# EAGLE library part JUMPERS-14X3 (library cdp)
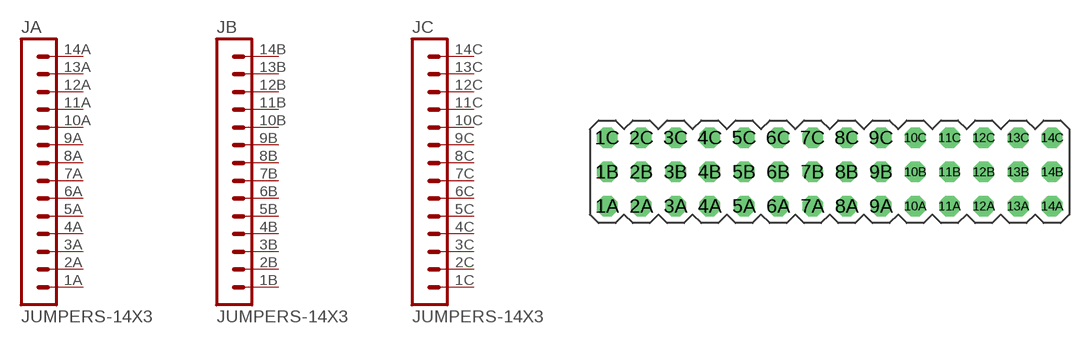
[diagram p51: symbol with the pads of MA14-3; footprint MA14-3]

Designator prefix J; gates A=MA14-1 B=MA14-1 C=MA14-1

## JUMPERS-14X3  [MA14-3]
1A  A:1  pas
1B  B:1  pas
1C  C:1  pas
2A  A:2  pas
2B  B:2  pas
2C  C:2  pas
3A  A:3  pas
3B  B:3  pas
3C  C:3  pas
4A  A:4  pas
4B  B:4  pas
4C  C:4  pas
5A  A:5  pas
5B  B:5  pas
5C  C:5  pas
6A  A:6  pas
6B  B:6  pas
6C  C:6  pas
7A  A:7  pas
7B  B:7  pas
7C  C:7  pas
8A  A:8  pas
8B  B:8  pas
8C  C:8  pas
9A  A:9  pas
9B  B:9  pas
9C  C:9  pas
10A  A:10  pas
10B  B:10  pas
10C  C:10  pas
11A  A:11  pas
11B  B:11  pas
11C  C:11  pas
12A  A:12  pas
12B  B:12  pas
12C  C:12  pas
13A  A:13  pas
13B  B:13  pas
13C  C:13  pas
14A  A:14  pas
14B  B:14  pas
14C  C:14  pas

## Footprint MA14-3 (pad centres in mm)
drill 1.016 octagon: 1A -16.51,-2.54; 1B -16.51,0; 1C -16.51,2.54; 2A -13.97,-2.54; 2B -13.97,0; 2C -13.97,2.54; 3A -11.43,-2.54; 3B -11.43,0; 3C -11.43,2.54; 4A -8.89,-2.54; 4B -8.89,0; 4C -8.89,2.54; 5A -6.35,-2.54; 5B -6.35,0; 5C -6.35,2.54; 6A -3.81,-2.54; 6B -3.81,0; 6C -3.81,2.54; 7A -1.27,-2.54; 7B -1.27,0; 7C -1.27,2.54; 8A 1.27,-2.54; 8B 1.27,0; 8C 1.27,2.54; 9A 3.81,-2.54; 9B 3.81,0; 9C 3.81,2.54; 10A 6.35,-2.54; 10B 6.35,0; 10C 6.35,2.54; 11A 8.89,-2.54; 11B 8.89,0; 11C 8.89,2.54; 12A 11.43,-2.54; 12B 11.43,0; 12C 11.43,2.54; 13A 13.97,-2.54; 13B 13.97,0; 13C 13.97,2.54; 14A 16.51,-2.54; 14B 16.51,0; 14C 16.51,2.54